# EAGLE library part ARDUINO (library evolvulator)
Arduino Uno / Ethernet Shield Make a shield for the Arduino Uno or the Arduino Ethernet for the Standard pin configuration. The outline is on the DIMENSION layer, so if your board house uses it they will cut the outline to match. Derived from the Lady Ada eagle library http://www.ladyada.net/library/pcb/eaglelibrary.html
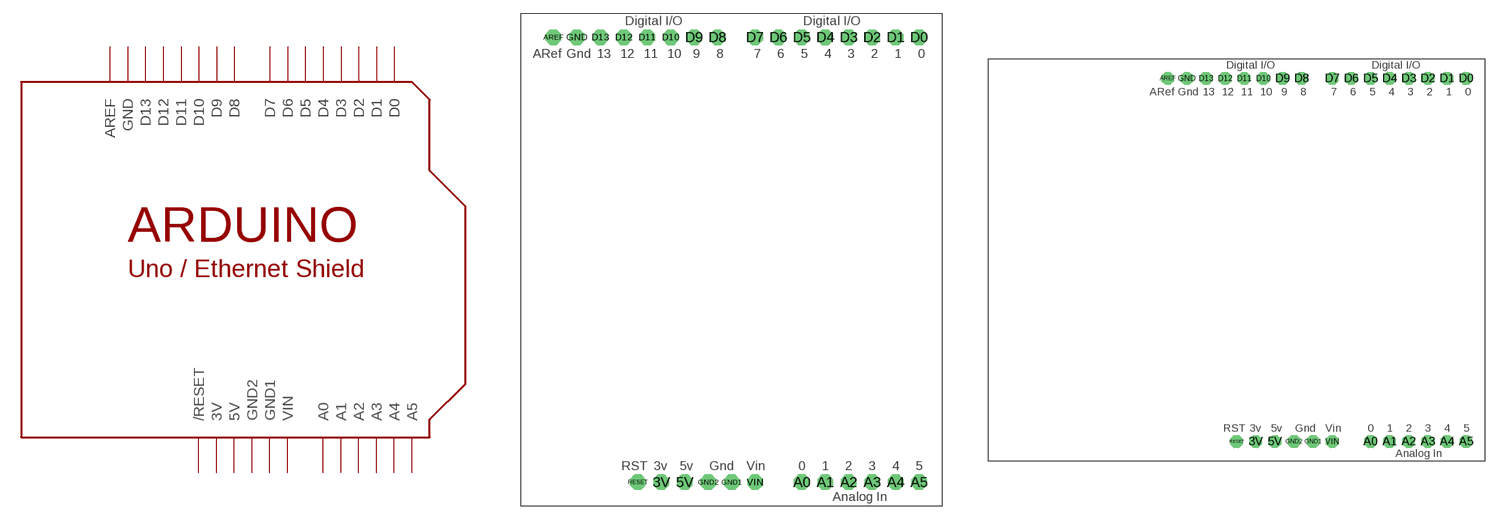
[diagram p1: symbol with the pads of ARDUINOSHIELD-MIN; footprints ARDUINOSHIELD-MIN, ARDUINOSHIELD-MAX]

Designator prefix -

## ARDUINOMIN  [ARDUINOSHIELD-MIN]
3V  3V  pwr
5V  5V  pwr
A0  A0
A1  A1
A2  A2
A3  A3
A4  A4
A5  A5
AREF  AREF
D0  D0
D1  D1
D2  D2
D3  D3
D4  D4
D5  D5
D6  D6
D7  D7
D8  D8
D9  D9
D10  D10
D11  D11
D12  D12
D13  D13
GND  GND  pwr
GND1  GND1  pwr
GND2  GND2  pwr
RESET  /RESET
VIN  VIN  pwr

## ARDUINOMAX  [ARDUINOSHIELD-MAX]
Pads as for ARDUINOSHIELD-MIN

## Footprint ARDUINOSHIELD-MIN (pad centres in mm)
drill 1 pad 1.676 octagon: 3V 15.24,2.54; 5V 17.78,2.54; A0 30.48,2.54; A1 33.02,2.54; A2 35.56,2.54; A3 38.1,2.54; A4 40.64,2.54; A5 43.18,2.54; AREF 3.556,50.8; D0 43.18,50.8; D1 40.64,50.8; D2 38.1,50.8; D3 35.56,50.8; D4 33.02,50.8; D5 30.48,50.8; D6 27.94,50.8; D7 25.4,50.8; D8 21.336,50.8; D9 18.796,50.8; D10 16.256,50.8; D11 13.716,50.8; D12 11.176,50.8; D13 8.636,50.8; GND 6.096,50.8; GND1 22.86,2.54; GND2 20.32,2.54; RESET 12.7,2.54; VIN 25.4,2.54

## Footprint ARDUINOSHIELD-MAX (pad centres in mm)
drill 1 pad 1.676 octagon: 3V 15.24,2.54; 5V 17.78,2.54; A0 30.48,2.54; A1 33.02,2.54; A2 35.56,2.54; A3 38.1,2.54; A4 40.64,2.54; A5 43.18,2.54; AREF 3.556,50.8; D0 43.18,50.8; D1 40.64,50.8; D2 38.1,50.8; D3 35.56,50.8; D4 33.02,50.8; D5 30.48,50.8; D6 27.94,50.8; D7 25.4,50.8; D8 21.336,50.8; D9 18.796,50.8; D10 16.256,50.8; D11 13.716,50.8; D12 11.176,50.8; D13 8.636,50.8; GND 6.096,50.8; GND1 22.86,2.54; GND2 20.32,2.54; RESET 12.7,2.54; VIN 25.4,2.54